# Altium schematic symbol library PTS526_SK15_SMTR2_LFS.SchLib: 1 symbol
Pins are listed as number, name and electrical type; pins without a type are passive.

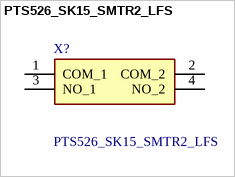
[diagram p0: symbol PTS526_SK15_SMTR2_LFS]

## PTS526_SK15_SMTR2_LFS
designator X?
Tact 5.2 x 5.2, 1.5 mm H, 260gf, G leads, No ground pin, metal actuator; Manufacturer_Name: C & K COMPONENTS; Manufacturer_Part_Number: PTS526 SK15 SMTR2 LFS; Geometry.Height: 1.65mm; Mouser Part Number: 611-PTS526SK15SMR2L; Mouser Price/Stock: https://www.mouser.co.uk/ProductDetail/CK/PTS526-SK15-SMTR2-LFS?qs=UXgszm6BlbF5Ezp94JAQtw%3D%3D; Arrow Part Number: PTS526 SK15 SMTR2 LFS; Arrow Price/Stock: https://www.arrow.com/en/products/pts526-sk15-smtr2-lfs/ck?utm_currency=USD&region=nac; Datasheet Link: https://www.ckswitches.com/media/2780/pts526.pdf
footprint PTS526SK15SMTR2LFS
pins: 1 COM_1, 2 COM_2, 3 NO_1, 4 NO_2